# EAGLE library part IRF7314PBF (library IRF7314PBF)
Check availability <https://pricing.snapeda.com/parts/IRF7314PBF/Infineon/view-part?ref=eda>
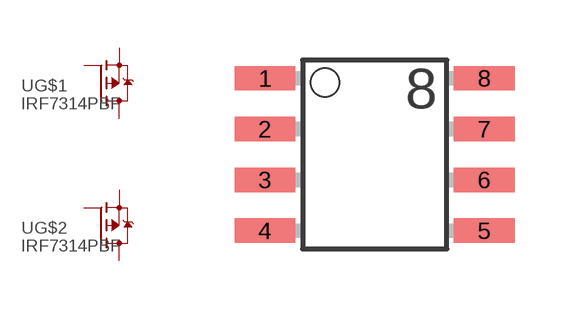
[diagram p0: symbol with the pads of SO-8; footprint SO-8]

Designator prefix -; gates G$1=P-MOSFET G$2=P-MOSFET

## IRF7314PBF (Availability: In Stock; Description: Mosfet Array 2 P-Channel (Dual) 20V 5.3A 2W Surface Mount 8-SO; MF: Infineon; MP: IRF7314PBF; Package: SOIC-8 International Rectifier; Price: None; Purchase-URL: https://pricing.snapeda.com/search/part/IRF7314PBF/?ref=eda)  [SO-8]
1  G$1:S  pas
2  G$1:G  pas
3  G$2:S  pas
4  G$2:G  pas
5  G$2:D  pas
6  G$2:D  pas
7  G$1:D  pas
8  G$1:D  pas

## Footprint SO-8 (pad centres in mm)
SO 8 small outline
smd 1.524 x 0.61: 1 -2.743,1.905; 2 -2.743,0.635; 3 -2.743,-0.635; 4 -2.743,-1.905; 5 2.743,-1.905; 6 2.743,-0.635; 7 2.743,0.635; 8 2.743,1.905